# EAGLE library part ENC28J60-I (library SW_Communications)
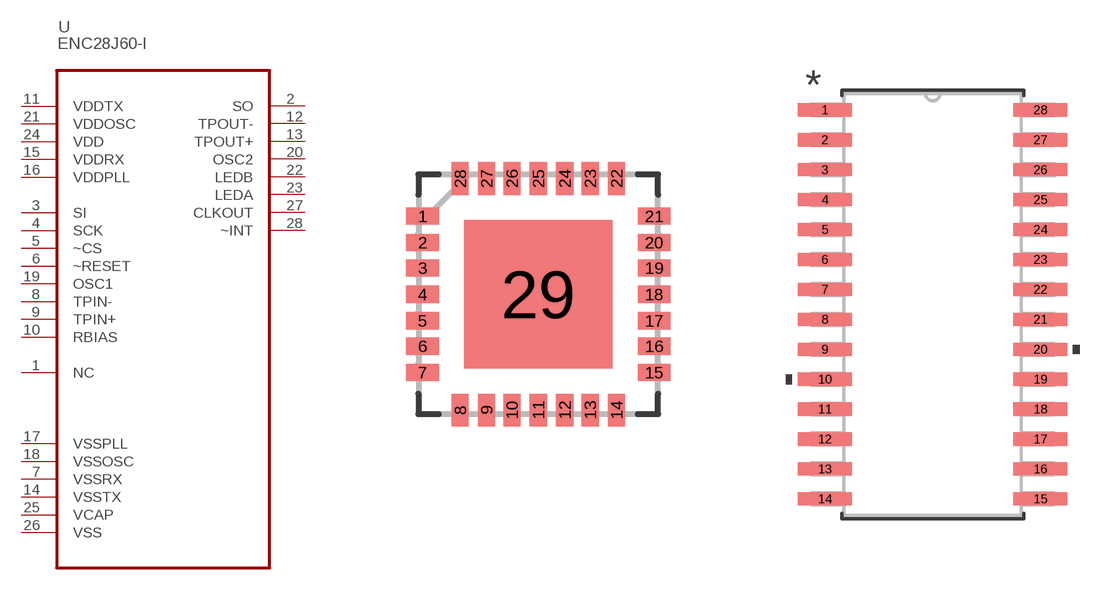
[diagram p4: symbol with the pads of QFN-28; footprints QFN-28, SOIC28-W]

Designator prefix U

## ENC28J60-IML (CATEGORY: Communications; DESCRIPTION: Ethernet Controller 10 Base-T PHY SPI Interface 28-QFN (6x6); MFGS: Microchip Technologies; MPNS: ENC28J60-I/ML; PACKAGE: QFN28; PART_NUMBER: ENC28J60-I/ML; SW_PART_NUMBER: SW0000862)  [QFN-28]
1  NC  nc
2  SO  out
3  SI  in
4  SCK  in
5  ~CS  in
6  ~RESET  in
7  VSSRX  pas
8  TPIN-  in
9  TPIN+  in
10  RBIAS  in
11  VDDTX  pwr
12  TPOUT-  out
13  TPOUT+  out
14  VSSTX  pas
15  VDDRX  pwr
16  VDDPLL  pwr
17  VSSPLL  pas
18  VSSOSC  pas
19  OSC1  in
20  OSC2  out
21  VDDOSC  pwr
22  LEDB  out
23  LEDA  out
24  VDD  pwr
25  VCAP  pwr
26  VSS  pas
27  CLKOUT  out
28  ~INT  out

## ENC28J60-ISO (CATEGORY: Communications; DESCRIPTION: Ethernet Controller 10 Base-T PHY SPI Interface SOIC-28; MFGS: Microchip Technology; MPNS: ENC28J60-I/SO; PACKAGE: SOIC28-W; PART_NUMBER: ENC28J60-I/SO; SW_PART_NUMBER: SW0000863)  [SOIC28-W]
1  VCAP  pwr
2  VSS  pas
3  CLKOUT  out
4  ~INT  out
5  NC  nc
6  SO  out
7  SI  in
8  SCK  in
9  ~CS  in
10  ~RESET  in
11  VSSRX  pas
12  TPIN-  in
13  TPIN+  in
14  RBIAS  in
15  VDDTX  pwr
16  TPOUT-  out
17  TPOUT+  out
18  VSSTX  pas
19  VDDRX  pwr
20  VDDPLL  pwr
21  VSSPLL  pas
22  VSSOSC  pas
23  OSC1  in
24  OSC2  out
25  VDDOSC  pwr
26  LEDB  out
27  LEDA  out
28  VDD  pwr

## ENC28J60-ISS (CATEGORY: Communications; DESCRIPTION: Ethernet Controller 10 Base-T PHY SPI Interface 28-SSOP; MFGS: Microchip Technology; MPNS: ENC28J60T/SS; PACKAGE: SSOP-28; PART_NUMBER: ENC28J60T/SS; SW_PART_NUMBER: SW0000864)  [SSOP28]
Pads as for SOIC28-W

## Footprint QFN-28 (pad centres in mm)
smd 0.813 x 0.432: 1 -2.896,1.956; 2 -2.896,1.295; 3 -2.896,0.66; 4 -2.896,0; 5 -2.896,-0.66; 6 -2.896,-1.295; 7 -2.896,-1.956; 15 2.896,-1.956; 16 2.896,-1.295; 17 2.896,-0.66; 18 2.896,0; 19 2.896,0.66; 20 2.896,1.295; 21 2.896,1.956
smd 0.432 x 0.813: 8 -1.956,-2.896; 9 -1.295,-2.896; 10 -0.66,-2.896; 11 0,-2.896; 12 0.66,-2.896; 13 1.295,-2.896; 14 1.956,-2.896; 22 1.956,2.896; 23 1.295,2.896; 24 0.66,2.896; 25 0,2.896; 26 -0.66,2.896; 27 -1.295,2.896; 28 -1.956,2.896
smd 3.708 x 3.708: 29 0,0

## Footprint SOIC28-W (pad centres in mm)
smd 2.286 x 0.559: 1 -4.572,8.255; 2 -4.572,6.985; 3 -4.572,5.715; 4 -4.572,4.445; 5 -4.572,3.175; 6 -4.572,1.905; 7 -4.572,0.635; 8 -4.572,-0.635; 9 -4.572,-1.905; 10 -4.572,-3.175; 11 -4.572,-4.445; 12 -4.572,-5.715; 13 -4.572,-6.985; 14 -4.572,-8.255; 15 4.572,-8.255; 16 4.572,-6.985; 17 4.572,-5.715; 18 4.572,-4.445; 19 4.572,-3.175; 20 4.572,-1.905; 21 4.572,-0.635; 22 4.572,0.635; 23 4.572,1.905; 24 4.572,3.175; 25 4.572,4.445; 26 4.572,5.715; 27 4.572,6.985; 28 4.572,8.255

## Footprint SSOP28 (pad centres in mm)
28-Lead Shrink Small Outline Package SSOP (RS-28) Source: http://www.analog.com/UploadedFiles/Data_Sheets/39677768AD7714_c.pdf
smd 0.4 x 1.5: 1 -4.225,-3.625; 2 -3.575,-3.625; 3 -2.925,-3.625; 4 -2.275,-3.625; 5 -1.625,-3.625; 6 -0.975,-3.625; 7 -0.325,-3.625; 8 0.325,-3.625; 9 0.975,-3.625; 10 1.625,-3.625; 11 2.275,-3.625; 12 2.925,-3.625; 13 3.575,-3.625; 14 4.225,-3.625; 15 4.225,3.625; 16 3.575,3.625; 17 2.925,3.625; 18 2.275,3.625; 19 1.625,3.625; 20 0.975,3.625; 21 0.325,3.625; 22 -0.325,3.625; 23 -0.975,3.625; 24 -1.625,3.625; 25 -2.275,3.625; 26 -2.925,3.625; 27 -3.575,3.625; 28 -4.225,3.625